# Altium schematic symbol library MCU_NXP_S08.SchLib: 189 symbols (part 4 of 4)
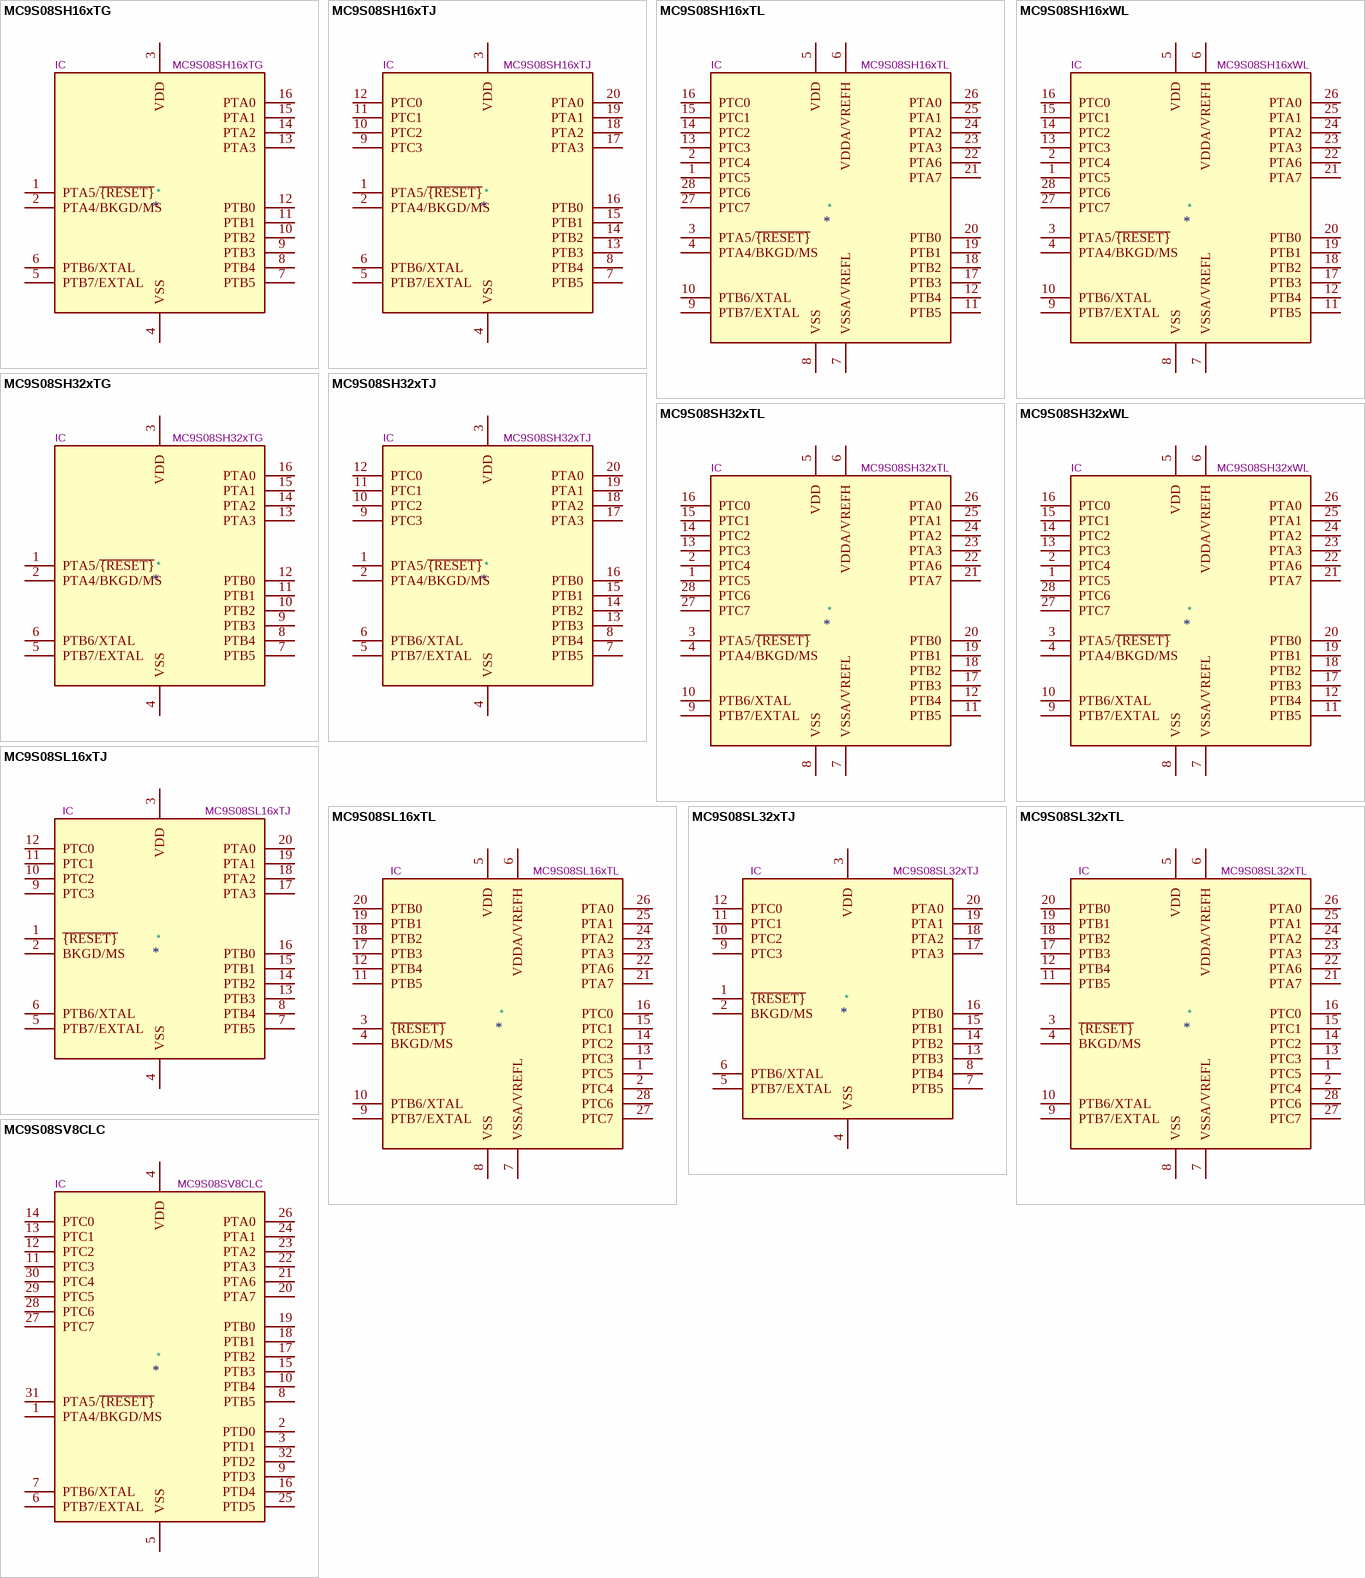
[diagram p22: symbols MC9S08SH16xTG to MC9S08SV8CLC]

## MC9S08SV8CLC
designator *  value MC9S08SV8CLC  Reference: IC
8-bit General Purpose Best-in-Class performance Microcontroller, S08 core, 8kB Flash, 768B RAM, LQFP-32; ki_keywords: NXP S08 Microcontroller; ki_fp_filters: LQFP*7x7mm*P0.8mm*; Footprint: Package_QFP:LQFP-32_7x7mm_P0.8mm; Datasheet: https://www.nxp.com/docs/en/reference-manual/MC9S08SV16RM.pdf; Description_: 8-bit General Purpose Best-in-Class performance Microcontroller, S08 core, 8kB Flash, 768B RAM, LQFP-32
pins: 1 PTA4/BKGD/MS, 2 PTD0, 3 PTD1, 4 VDD, 5 VSS, 6 PTB7/EXTAL, 7 PTB6/XTAL, 8 PTB5, 9 PTD3, 10 PTB4, 11 PTC3, 12 PTC2, 13 PTC1, 14 PTC0, 15 PTB3, 16 PTD4, 17 PTB2, 18 PTB1, 19 PTB0, 20 PTA7, 21 PTA6, 22 PTA3, 23 PTA2, 24 PTA1, 25 PTD5, 26 PTA0, 27 PTC7, 28 PTC6, 29 PTC5, 30 PTC4, 31 PTA5/~{{RESET}}, 32 PTD2

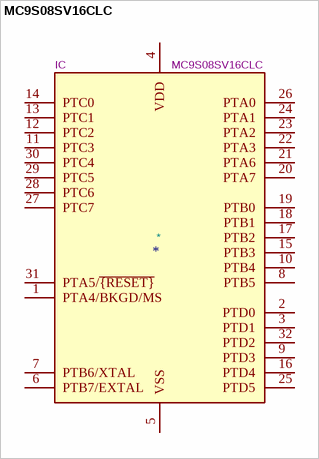
[diagram p19: symbol MC9S08SV16CLC]

## MC9S08SV16CLC
designator *  value MC9S08SV16CLC  Reference: IC
8-bit General Purpose Best-in-Class performance Microcontroller, S08 core, 16kB Flash, 1kB RAM, LQFP-32; ki_keywords: NXP S08 Microcontroller; ki_fp_filters: LQFP*7x7mm*P0.8mm*; Footprint: Package_QFP:LQFP-32_7x7mm_P0.8mm; Datasheet: https://www.nxp.com/docs/en/reference-manual/MC9S08SV16RM.pdf; Description_: 8-bit General Purpose Best-in-Class performance Microcontroller, S08 core, 16kB Flash, 1kB RAM, LQFP-32
pins: 1 PTA4/BKGD/MS, 2 PTD0, 3 PTD1, 4 VDD, 5 VSS, 6 PTB7/EXTAL, 7 PTB6/XTAL, 8 PTB5, 9 PTD3, 10 PTB4, 11 PTC3, 12 PTC2, 13 PTC1, 14 PTC0, 15 PTB3, 16 PTD4, 17 PTB2, 18 PTB1, 19 PTB0, 20 PTA7, 21 PTA6, 22 PTA3, 23 PTA2, 24 PTA1, 25 PTD5, 26 PTA0, 27 PTC7, 28 PTC6, 29 PTC5, 30 PTC4, 31 PTA5/~{{RESET}}, 32 PTD2